# EAGLE library part KEMET_CERAMIC_CAPACITOR_ARRAY_1X4 (library array-capacitor)
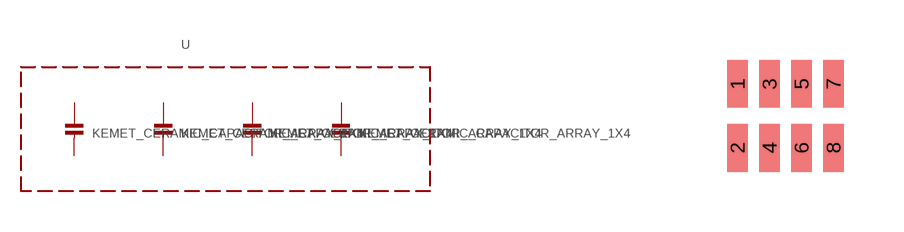
[diagram p0: symbol with the pads of CAPACITOR_ARRAY_1206_MONO_1X4; footprint CAPACITOR_ARRAY_1206_MONO_1X4]

Designator prefix -

## KEMET_CERAMIC_CAPACITOR_ARRAY_1X4  [CAPACITOR_ARRAY_1206_MONO_1X4]
1  P$1  pas
2  P$2  pas
3  P$3  pas
4  P$4  pas
5  P$5  pas
6  P$6  pas
7  P$7  pas
8  P$8  pas

## Footprint CAPACITOR_ARRAY_1206_MONO_1X4 (pad centres in mm)
smd 0.52 x 1.2: 1 -1.2,0.8; 2 -1.2,-0.8; 3 -0.4,0.8; 4 -0.4,-0.8; 5 0.4,0.8; 6 0.4,-0.8; 7 1.2,0.8; 8 1.2,-0.8